# Altium schematic symbol library esp8266.SchLib: 21 symbols
Pins are listed as number, name and electrical type; pins without a type are passive.

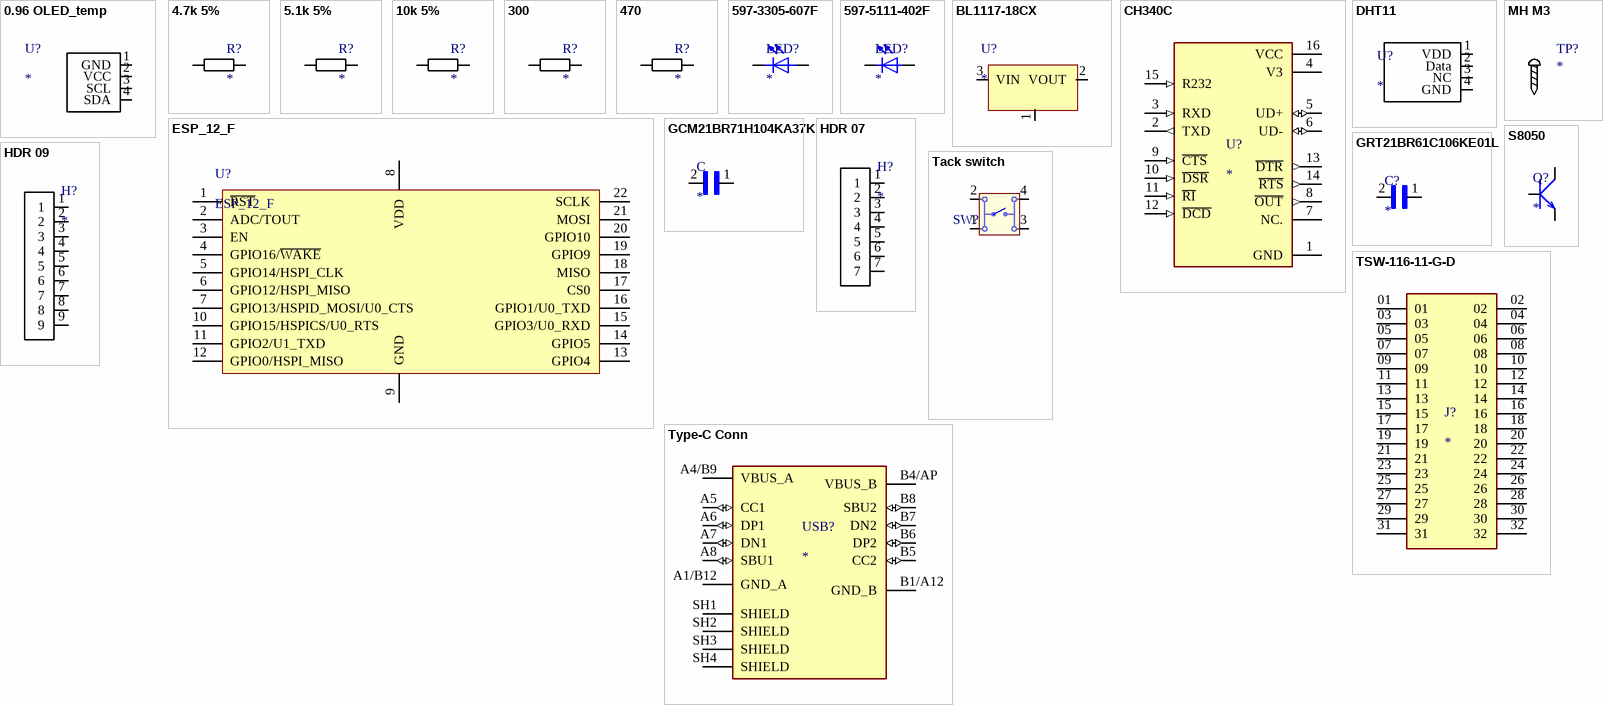
[diagram p0: symbols 0.96 OLED_temp to Type-C Conn]

## 0.96 OLED_temp
designator U?
footprint 0.96 OLED_temp (2.54mm pitch, 12 pin, terminal strip; single row)
pins: 1 GND "Gnd", 2 VCC, 3 SCL, 4 SDA

## 4.7k 5%
designator R?
Value: 4.7K; Availability: Unavailable; Price: None; Package: 0805
footprint R0805
pins: 1, 2

## 5.1k 5%
designator R?
Value: 5.1K; Availability: Unavailable; Price: None; Package: 0805
footprint R0805
pins: 1, 2

## 10k 5%
designator R?
Value: 10K; Availability: Unavailable; Price: None; Package: 0805
footprint R0805
pins: 1, 2

## 300
designator R?
5%; Value: 300; Availability: Unavailable; Price: None; Package: 0805
footprint R0805
pins: 1, 2

## 470
designator R?
5%; Value: 470; Availability: Unavailable; Price: None; Package: 0805
footprint R0805
pins: 1, 2

## 597-3305-607F
designator LED?
LED Uni-Color Green 4-Pin Chip 0805 T/R
footprint LEDC2012X70N
pins: A, C

## 597-5111-402F
designator LED?
SMD LED 0805 R SAMPLE STRIP | Dialight 597-5111-402F
footprint LEDC2012X70N
pins: A, C

## BL1117-18CX
designator U?
footprint SOT-223-2 (SOT-223/SC-73; 4 Leads; Body 6.7 x 7.3 mm, inc. leads (LxW max))
pins: 1 GND, 2 VOUT, 3 VIN

## CH340C
designator U?
USB to serial chip CH340
footprint SOIC127P600X180-16N
pins: 1 GND (power), 2 TXD (out), 3 RXD (in), 4 V3 (power), 5 UD+ (io), 6 UD- (io), 7 NC., 8 ~{OUT} (out), 9 ~{CTS} (in), 10 ~{DSR} (in), 11 ~{RI} (in), 12 ~{DCD} (in), 13 ~{DTR} (out), 14 ~{RTS} (out), 15 R232 (in), 16 VCC (power)

## DHT11
designator U?
footprint DHT11 (Temp and humidity module)
pins: 1 VDD (power) "Gnd", 2 Data, 3 NC, 4 GND

## ESP_12_F
designator U?
ESP-12F Wi-Fi Module by AI-Thinker
footprint ESP_12_F (ESP-12 Wi-Fi Module by AI-Thinker)
pins: 1 ~{RST}, 2 ADC/TOUT, 3 EN "Chip enable", 4 GPIO16/~{WAKE}, 5 GPIO14/HSPI_CLK, 6 GPIO12/HSPI_MISO, 7 GPIO13/HSPID_MOSI/U0_CTS, 8 VDD "Power supply", 9 GND "Power ground", 10 GPIO15/HSPICS/U0_RTS, 11 GPIO2/U1_TXD, 12 GPIO0/HSPI_MISO, 13 GPIO4, 14 GPIO5, 15 GPIO3/U0_RXD, 16 GPIO1/U0_TXD, 17 CS0, 18 MISO, 19 GPIO9, 20 GPIO10, 21 MOSI, 22 SCLK

## GCM21BR71H104KA37K
designator C
SMD Capacitor X7R(EIA) with Capacitance: 0.10uF Tol. 10%. Rated Voltage: 50Vdc; MP: GCM21BR71H104KA37K; MF: Murata; Value: *; Package: 0805 Murata
footprint CAPC2012X135N - duplicate
pins: 1, 2

## GRT21BR61C106KE01L
designator C?
SMD Capacitor X5R(EIA) with Capacitance: 10uF Tol. 10%. Rated Voltage: 16Vdc; MF: Murata; MP: GRT21BR61C106KE01L; Price: None; Value: *; Availability: Good; Package: 0805 Murata
footprint CAPC2012X135N
pins: 1, 2

## HDR 07
designator H?
TE conn, HDR 7 Assy, MOD II, TH 2.54 mm
footprint HDR 07
pins: 1, 2, 3, 4, 5, 6, 7

## HDR 09
designator H?
TE conn, HDR 9 Assy, MOD II, TH 2.54 mm
footprint HDR 09
pins: 1, 2, 3, 4, 5, 6, 7, 8, 9

## MH M3
designator TP?
Mounting hole
footprint MH_M3 (Mounting hole for M3 screw)

## S8050
designator Q?
Bipolar (BJT) Transistor NPN 25 V 500 mA 150MHz 300 mW Surface Mount SOT-23; MF: UMW; MP: S8050; Value: *
footprint SOT-23
pins: 1 B, 2 E, 3 C

## Tack switch
designator SW?
WS-TASV J-Bend SMD Tact Switch 6X6 mm; NoPins: 04
footprint 430453025836 (6*6mm washable vertical type, J-Bend SMD, height 2.5mm, salmon actuator, 360gf, T&R)
pins: 1, 2, 3, 4

## TSW-116-11-G-D
designator J?
MP: TSW-116-11-G-D
footprint SAMTEC_TSW-116-11-G-D
pins: 01, 02, 03, 04, 05, 06, 07, 08, 09, 10, 11, 12, 13, 14, 15, 16, 17, 18, 19, 20, 21, 22, 23, 24, 25, 26, 27, 28, 29, 30, 31, 32

## Type-C Conn
designator USB?
USB Type C 2.0 Conn
footprint TE_2340901-1
pins: A1/B12 GND_A (power), A4/B9 VBUS_A (power), A5 CC1 (io), A6 DP1 (io), A7 DN1 (io), A8 SBU1 (io), B1/A12 GND_B (power), B4/AP VBUS_B (power), B5 CC2 (io), B6 DP2 (io), B7 DN2 (io), B8 SBU2 (io), SH1 SHIELD, SH2 SHIELD, SH3 SHIELD, SH4 SHIELD